# EAGLE library part NCR5380 (library sgqparts)
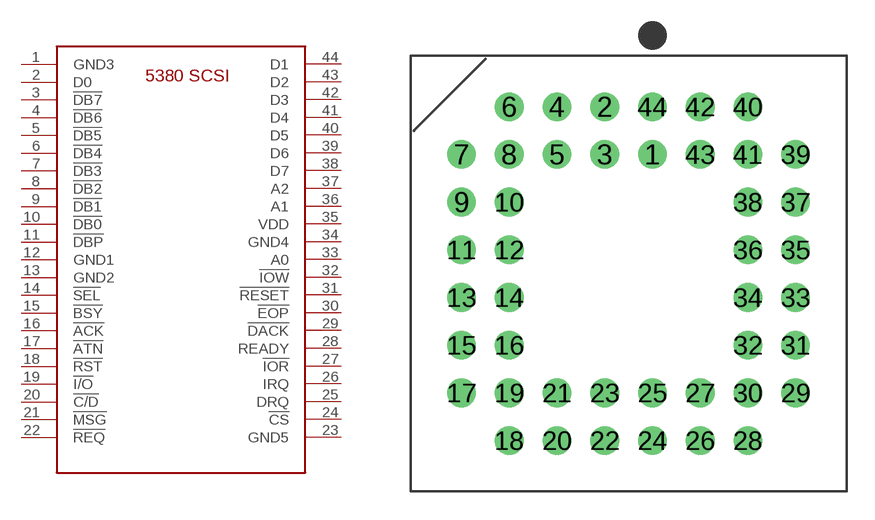
[diagram p5: symbol with the pads of 5380_SCSI_PLCC_SOCKET; footprint 5380_SCSI_PLCC_SOCKET]

Designator prefix -

## NCR5380_5380_SCSI_PLCC_SOCKET  [5380_SCSI_PLCC_SOCKET]
1  GND3  pwr
2  D0
3  !DB7
4  !DB6
5  !DB5
6  !DB4
7  !DB3
8  !DB2
9  !DB1
10  !DB0
11  !DBP
12  GND1  pwr
13  GND2  pwr
14  !SEL
15  !BSY
16  !ACK
17  !ATN
18  !RST
19  !I/O
20  !C/D
21  !MSG
22  !REQ
23  GND5  pwr
24  !CS
25  DRQ
26  IRQ
27  !IOR
28  READY
29  !DACK
30  !EOP
31  !RESET
32  !IOW
33  A0
34  GND4  pwr
35  VDD  pwr
36  A1
37  A2
38  D7
39  D6
40  D5
41  D4
42  D3
43  D2
44  D1

## NCR5380_53C80_SCSI_PLCC_SOCKET  [5380_SCSI_PLCC_SOCKET]
1  !DB7
2  !RST
3  GND1  pwr
4  !BSY
5  !SEL
6  !ATN
7  !RESET
8  IRQ
9  DRQ
10  !EOP
11  !DACK
12  GND2  pwr
13  READY
14  A0
15  A1
16  A2
17  !CS
18  !IOW
19  !IOR
20  D7
21  D6
22  D5
23  VDD  pwr
24  D4
25  D3
26  D2
27  D1
28  D0
29  !MSG
30  !C/D
31  GND3  pwr
32  !I/O
33  !ACK
34  !REQ
35  !DBP
36  GND5  pwr
37  !DB0
38  !DB1
39  !DB2
40  !DB3
41  !DB4
42  GND4  pwr
43  !DB5
44  !DB6

## Footprint 5380_SCSI_PLCC_SOCKET (pad centres in mm)
drill 1.02: 1 1.27,6.35; 2 -1.27,8.89; 3 -1.27,6.35; 4 -3.81,8.89; 5 -3.81,6.35; 6 -6.35,8.89; 7 -8.89,6.35; 8 -6.35,6.35; 9 -8.89,3.81; 10 -6.35,3.81; 11 -8.89,1.27; 12 -6.35,1.27; 13 -8.89,-1.27; 14 -6.35,-1.27; 15 -8.89,-3.81; 16 -6.35,-3.81; 17 -8.89,-6.35; 18 -6.35,-8.89; 19 -6.35,-6.35; 20 -3.81,-8.89; 21 -3.81,-6.35; 22 -1.27,-8.89; 23 -1.27,-6.35; 24 1.27,-8.89; 25 1.27,-6.35; 26 3.81,-8.89; 27 3.81,-6.35; 28 6.35,-8.89; 29 8.89,-6.35; 30 6.35,-6.35; 31 8.89,-3.81; 32 6.35,-3.81; 33 8.89,-1.27; 34 6.35,-1.27; 35 8.89,1.27; 36 6.35,1.27; 37 8.89,3.81; 38 6.35,3.81; 39 8.89,6.35; 40 6.35,8.89; 41 6.35,6.35; 42 3.81,8.89; 43 3.81,6.35; 44 1.27,8.89